# Altium footprint library PrototypePassives.PcbLib: 21 footprints (part 2 of 2)
Each footprint in its own frame and in the unit in brackets; x right, y up, seen from the top. Pads: shape width x height; smd on the part's side, far side on the other; paste and mask are expansions set on the pad; w line width, h text height; cw(c..) or ccw(c..) is an arc to the next point about the centre after c.
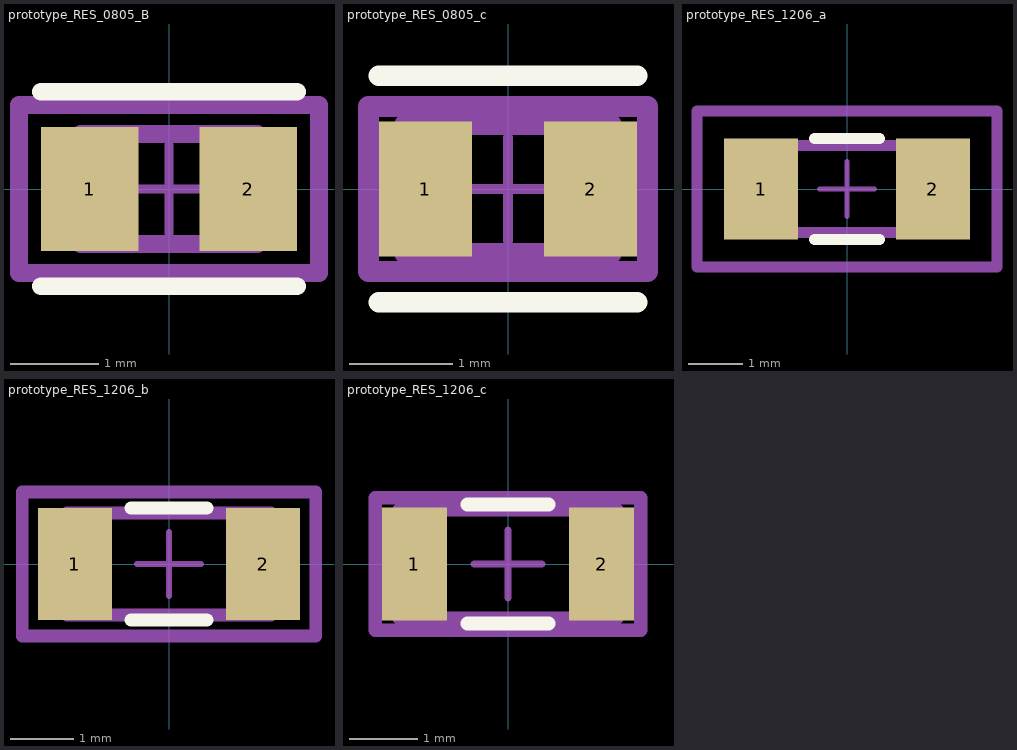
[diagram p1: the footprints below, top view; thin cyan lines are the x and y axes]

## prototype_RES_0805_B [mil] "Samsung resistor"
pads (2):
  rect 43.5x55.44 smd paste+0 mask+0: 1(-35.46,0) 2(35.46,0)
Top Overlay:
  lines w7.87: -57.21,-43.47 57.21,-43.47 ; -57.21,43.47 57.21,43.47
Mechanical 10:
  lines w7.87: -67.05,-37.56 -67.05,37.56 67.05,37.56 67.05,-37.56 -67.05,-37.56
  text ".Designator" at 0,7.39 h39.37
Mechanical 12:
  lines w7.87: -39.37,-24.61 -39.37,24.61 39.37,24.61 39.37,-24.61 -39.37,-24.61
Mechanical 15:
  lines w3.94: -19.68,0 19.68,0 ; 0,-19.68 0,19.68
  lines w7.87: -67.05,-37.56 -67.05,37.56 67.05,37.56 67.05,-37.56 -67.05,-37.56
3D body "Res_Samsung_RC2012J000CS_eec.STEP": height 10, standoff 0, extent -67.05,-37.56 67.05,37.56

## prototype_RES_0805_c [mm] "Samsung resistor"
pads (2):
  rect 0.905x1.308 smd paste+0 mask+0: 1(-0.801,0) 2(0.801,0)
Top Overlay:
  lines w0.2: -1.253,-1.1 1.253,-1.1 ; -1.253,1.1 1.253,1.1
Mechanical 10:
  lines w0.2: -1.353,-0.8 1.353,-0.8 1.353,0.8 -1.353,0.8 -1.353,-0.8
  text ".Designator" at 0,0.188 h1
Mechanical 12:
  lines w0.2: -1,-0.625 1,-0.625 1,0.625 -1,0.625 -1,-0.625
Mechanical 15:
  lines w0.1: -0.5,0 0.5,0 ; 0,-0.5 0,0.5
  lines w0.2: -1.353,-0.8 1.353,-0.8 1.353,0.8 -1.353,0.8 -1.353,-0.8
3D body "Res_Samsung_RC2012J000CS_eec.STEP": height 0.25, standoff 0, extent -1.353,-0.8 1.353,0.8

## prototype_RES_1206_a [mm] "Samsung resistor"
pads (2):
  rect 1.355x1.858 smd paste+0 mask+0: 1(-1.576,0) 2(1.576,0)
Top Overlay:
  lines w0.2: -0.598,-0.929 0.598,-0.929 ; -0.598,0.929 0.598,0.929
Mechanical 10:
  lines w0.2: -2.753,-1.429 -2.753,1.429 2.753,1.429 2.753,-1.429 -2.753,-1.429
  text ".Designator" at 0,0.188 h1
Mechanical 12:
  lines w0.2: -1.6,-0.8 -1.6,0.8 1.6,0.8 1.6,-0.8 -1.6,-0.8
Mechanical 15:
  lines w0.1: -0.5,0 0.5,0 ; 0,-0.5 0,0.5
  lines w0.2: -2.753,-1.429 -2.753,1.429 2.753,1.429 2.753,-1.429 -2.753,-1.429
3D body "Res_Samsung_RC3216J472CS_eec.STEP": height 0.25, standoff 0, extent -2.753,-1.429 2.753,1.429

## prototype_RES_1206_b [mm] "Samsung resistor"
pads (2):
  rect 1.155x1.758 smd paste+0 mask+0: 1(-1.476,0) 2(1.476,0)
Top Overlay:
  lines w0.2: -0.598,-0.879 0.598,-0.879 ; -0.598,0.879 0.598,0.879
Mechanical 10:
  lines w0.2: -2.303,-1.129 2.303,-1.129 2.303,1.129 -2.303,1.129 -2.303,-1.129
  text ".Designator" at 0,0.188 h1
Mechanical 12:
  lines w0.2: -1.6,-0.8 1.6,-0.8 1.6,0.8 -1.6,0.8 -1.6,-0.8
Mechanical 15:
  lines w0.1: -0.5,0 0.5,0 ; 0,-0.5 0,0.5
  lines w0.2: -2.303,-1.129 2.303,-1.129 2.303,1.129 -2.303,1.129 -2.303,-1.129
3D body "Res_Samsung_RC3216J472CS_eec.STEP": height 0.25, standoff 0, extent -2.303,-1.129 2.303,1.129

## prototype_RES_1206_c [mm] "Samsung resistor"
pads (2):
  rect 0.955x1.658 smd paste+0 mask+0: 1(-1.376,0) 2(1.376,0)
Top Overlay:
  lines w0.2: -0.598,-0.875 0.598,-0.875 ; -0.598,0.875 0.598,0.875
Mechanical 10:
  lines w0.2: -1.953,-0.975 -1.953,0.975 1.953,0.975 1.953,-0.975 -1.953,-0.975
  text ".Designator" at 0,0.188 h1
Mechanical 12:
  lines w0.2: -1.6,-0.8 -1.6,0.8 1.6,0.8 1.6,-0.8 -1.6,-0.8
Mechanical 15:
  lines w0.1: -0.5,0 0.5,0 ; 0,-0.5 0,0.5
  lines w0.2: -1.953,-0.975 -1.953,0.975 1.953,0.975 1.953,-0.975 -1.953,-0.975
3D body "Res_Samsung_RC3216J472CS_eec.STEP": height 0.25, standoff 0, extent -1.953,-0.975 1.953,0.975